# Altium integrated library ON Semi Signal Management Digital POTs.IntLib: 284 symbols (part 11 of 11)
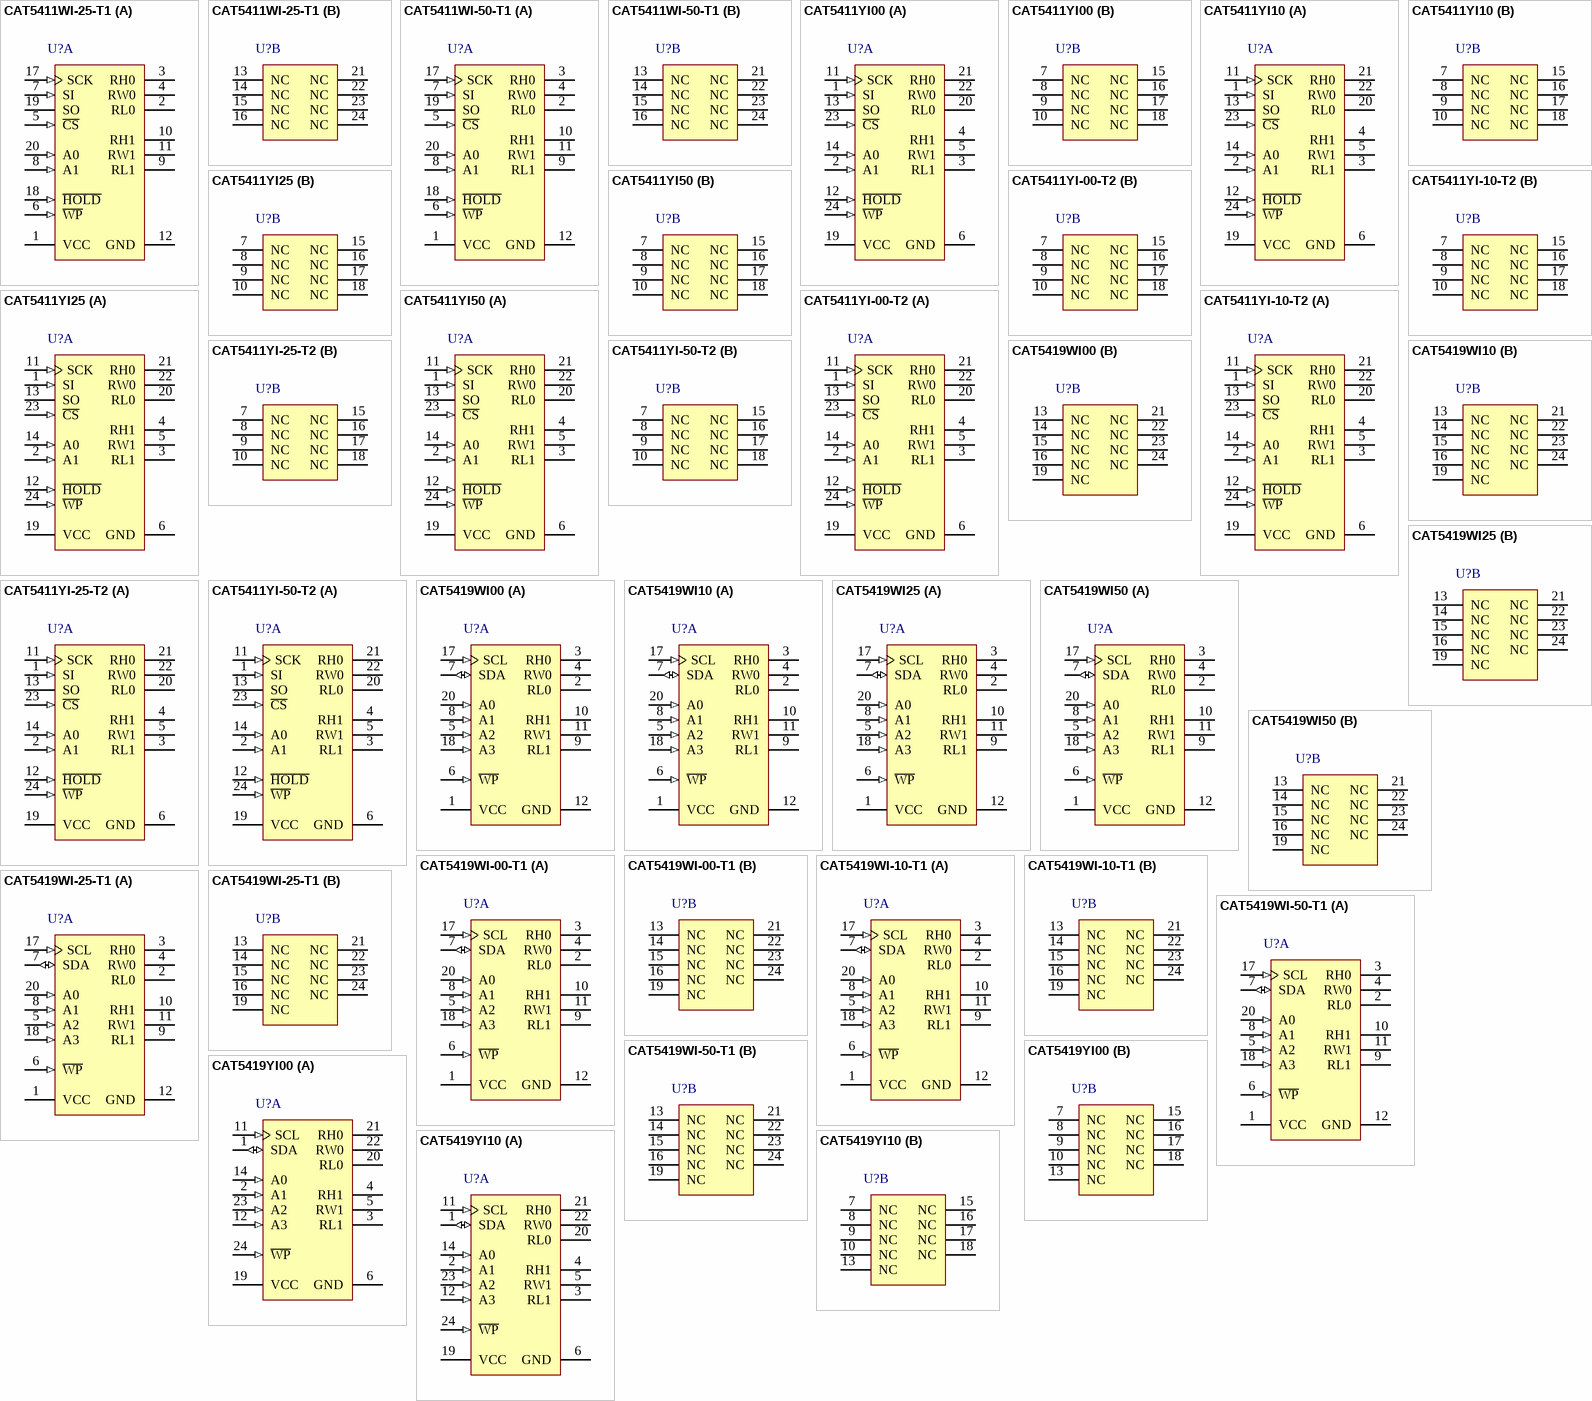
[diagram p19: symbols CAT5411WI-25-T1 to CAT5419YI10]

## CAT5419WI25
designator U?
Dual Digital Potentiometer (POT) with 64 Tap and 2-Wire Interface, -40 to 85 degC, 24-Pin SOIC, Pb-Free, Tube; Manufacturer: On Semiconductor; PartNumber: CAT5419WI25; # of Pots: 2; # of Taps: 64; Control Interface: I2C; VDD Max (V): 6; DatasheetVersion: Rev. 11; PackageVersion: Rev. O, 12/2008; PackageReference: SOIC-24-751BK-01; PackageDescription: 24-Pin Small Outline Integrated Circuit, Body 15.3 x 7.47 mm, Pitch 1.27 mm; Supplier 1: Mouser; Supplier Part Number 1: 698-CAT5419WI-25; Packing: Tube; RoHS: TRUE; Type: Potentiometer; Mounting Technology: Surface Mount; Code_JEDEC: MS-013; ComponentLink1Description: Manufacturer URL; ComponentLink1URL: http://www.onsemi.com/; ComponentLink2Description: Datasheet; ComponentLink2URL: http://www.onsemi.cn/pub_link/Collateral/CAT5419-D.PDF; ComponentLink3Description: Package Specification; ComponentLink3URL: http://www.onsemi.com/pub/Collateral/751BK.PDF
footprint ONSC-SOIC-24-751BK-01_N (SOIC, 24-Leads, Body 15.4x7.6mm, Pitch 1.27mm, IPC Medium Density)
footprint ONSC-SOIC-24-751BK-01_L (SOIC, 24-Leads, Body 15.4x7.6mm, Pitch 1.27mm, IPC High Density)
footprint ONSC-SOIC-24-751BK-01_M (SOIC, 24-Leads, Body 15.4x7.6mm, Pitch 1.27mm, IPC Low Density)
part A pins: 1 VCC (power) "Supply Voltage", 2 RL0 "Low Reference Terminal for Potentiometer 0", 3 RH0 "High Reference Terminal for Potentiometer 0", 4 RW0 "Wiper Terminal for Potentiometer 0", 5 A2 (in) "Device Address", 6 ~{WP} (in) "Write Protection", 7 SDA (io) "Serial Data Input/Output", 8 A1 (in) "Device Address", 9 RL1 "Low Reference Terminal for Potentiometer 1", 10 RH1 "High Reference Terminal for Potentiometer 1", 11 RW1 "Wiper Terminal for Potentiometer 1", 12 GND (power) "Ground", 17 SCL (in) "Bus Serial Clock", 18 A3 (in) "Device Address", 20 A0 (in) "Device Address, LSB"
part B pins: 13 NC "No Connect", 14 NC "No Connect", 15 NC "No Connect", 16 NC "No Connect", 19 NC "No Connect", 21 NC "No Connect", 22 NC "No Connect", 23 NC "No Connect", 24 NC "No Connect"

## CAT5419WI50
designator U?
Dual Digital Potentiometer (POT) with 64 Tap and 2-Wire Interface, -40 to 85 degC, 24-Pin SOIC, Pb-Free, Tube; Manufacturer: On Semiconductor; PartNumber: CAT5419WI50; # of Pots: 2; # of Taps: 64; Control Interface: I2C; VDD Max (V): 6; DatasheetVersion: Rev. 11; PackageVersion: Rev. O, 12/2008; PackageReference: SOIC-24-751BK-01; PackageDescription: 24-Pin Small Outline Integrated Circuit, Body 15.3 x 7.47 mm, Pitch 1.27 mm; Supplier 1: Mouser; Supplier Part Number 1: N/A; Packing: Tube; RoHS: TRUE; Type: Potentiometer; Mounting Technology: Surface Mount; Code_JEDEC: MS-013; ComponentLink1Description: Manufacturer URL; ComponentLink1URL: http://www.onsemi.com/; ComponentLink2Description: Datasheet; ComponentLink2URL: http://www.onsemi.cn/pub_link/Collateral/CAT5419-D.PDF; ComponentLink3Description: Package Specification; ComponentLink3URL: http://www.onsemi.com/pub/Collateral/751BK.PDF
footprint ONSC-SOIC-24-751BK-01_N (SOIC, 24-Leads, Body 15.4x7.6mm, Pitch 1.27mm, IPC Medium Density)
footprint ONSC-SOIC-24-751BK-01_L (SOIC, 24-Leads, Body 15.4x7.6mm, Pitch 1.27mm, IPC High Density)
footprint ONSC-SOIC-24-751BK-01_M (SOIC, 24-Leads, Body 15.4x7.6mm, Pitch 1.27mm, IPC Low Density)
part A pins: 1 VCC (power) "Supply Voltage", 2 RL0 "Low Reference Terminal for Potentiometer 0", 3 RH0 "High Reference Terminal for Potentiometer 0", 4 RW0 "Wiper Terminal for Potentiometer 0", 5 A2 (in) "Device Address", 6 ~{WP} (in) "Write Protection", 7 SDA (io) "Serial Data Input/Output", 8 A1 (in) "Device Address", 9 RL1 "Low Reference Terminal for Potentiometer 1", 10 RH1 "High Reference Terminal for Potentiometer 1", 11 RW1 "Wiper Terminal for Potentiometer 1", 12 GND (power) "Ground", 17 SCL (in) "Bus Serial Clock", 18 A3 (in) "Device Address", 20 A0 (in) "Device Address, LSB"
part B pins: 13 NC "No Connect", 14 NC "No Connect", 15 NC "No Connect", 16 NC "No Connect", 19 NC "No Connect", 21 NC "No Connect", 22 NC "No Connect", 23 NC "No Connect", 24 NC "No Connect"

## CAT5419WI-00-T1
designator U?
Dual Digital Potentiometer (POT) with 64 Tap and 2-Wire Interface, -40 to 85 degC, 24-Pin SOIC, Pb-Free, Tape and Reel; Manufacturer: On Semiconductor; PartNumber: CAT5419WI-00-T1; # of Pots: 2; # of Taps: 64; Control Interface: I2C; VDD Max (V): 6; DatasheetVersion: Rev. 11; PackageVersion: Rev. O, 12/2008; PackageReference: SOIC-24-751BK-01; PackageDescription: 24-Pin Small Outline Integrated Circuit, Body 15.3 x 7.47 mm, Pitch 1.27 mm; Supplier 1: Digi-Key; Supplier Part Number 1: CAT5419WI-00-T1-ND; Supplier 2: Mouser; Supplier Part Number 2: 863-CAT5419WI-00-T1; Packing: Tape and Reel; RoHS: TRUE; Type: Potentiometer; Mounting Technology: Surface Mount; Code_JEDEC: MS-013; ComponentLink1Description: Manufacturer URL; ComponentLink1URL: http://www.onsemi.com/; ComponentLink2Description: Datasheet; ComponentLink2URL: http://www.onsemi.cn/pub_link/Collateral/CAT5419-D.PDF; ComponentLink3Description: Package Specification; ComponentLink3URL: http://www.onsemi.com/pub/Collateral/751BK.PDF
footprint ONSC-SOIC-24-751BK-01_N (SOIC, 24-Leads, Body 15.4x7.6mm, Pitch 1.27mm, IPC Medium Density)
footprint ONSC-SOIC-24-751BK-01_L (SOIC, 24-Leads, Body 15.4x7.6mm, Pitch 1.27mm, IPC High Density)
footprint ONSC-SOIC-24-751BK-01_M (SOIC, 24-Leads, Body 15.4x7.6mm, Pitch 1.27mm, IPC Low Density)
part A pins: 1 VCC (power) "Supply Voltage", 2 RL0 "Low Reference Terminal for Potentiometer 0", 3 RH0 "High Reference Terminal for Potentiometer 0", 4 RW0 "Wiper Terminal for Potentiometer 0", 5 A2 (in) "Device Address", 6 ~{WP} (in) "Write Protection", 7 SDA (io) "Serial Data Input/Output", 8 A1 (in) "Device Address", 9 RL1 "Low Reference Terminal for Potentiometer 1", 10 RH1 "High Reference Terminal for Potentiometer 1", 11 RW1 "Wiper Terminal for Potentiometer 1", 12 GND (power) "Ground", 17 SCL (in) "Bus Serial Clock", 18 A3 (in) "Device Address", 20 A0 (in) "Device Address, LSB"
part B pins: 13 NC "No Connect", 14 NC "No Connect", 15 NC "No Connect", 16 NC "No Connect", 19 NC "No Connect", 21 NC "No Connect", 22 NC "No Connect", 23 NC "No Connect", 24 NC "No Connect"

## CAT5419WI-10-T1
designator U?
Dual Digital Potentiometer (POT) with 64 Tap and 2-Wire Interface, -40 to 85 degC, 24-Pin SOIC, Pb-Free, Tape and Reel; Manufacturer: On Semiconductor; PartNumber: CAT5419WI-10-T1; # of Pots: 2; # of Taps: 64; Control Interface: I2C; VDD Max (V): 6; DatasheetVersion: Rev. 11; PackageVersion: Rev. O, 12/2008; PackageReference: SOIC-24-751BK-01; PackageDescription: 24-Pin Small Outline Integrated Circuit, Body 15.3 x 7.47 mm, Pitch 1.27 mm; Supplier 1: Digi-Key; Supplier Part Number 1: CAT5419WI-10-T1CT-ND; Supplier 2: Digi-Key; Supplier Part Number 2: CAT5419WI-10-T1DKR-ND; Supplier 3: Mouser; Supplier Part Number 3: 863-CAT5419WI-10-T1; Packing: Tape and Reel; RoHS: TRUE; Type: Potentiometer; Mounting Technology: Surface Mount; Code_JEDEC: MS-013; ComponentLink1Description: Manufacturer URL; ComponentLink1URL: http://www.onsemi.com/; ComponentLink2Description: Datasheet; ComponentLink2URL: http://www.onsemi.cn/pub_link/Collateral/CAT5419-D.PDF; ComponentLink3Description: Package Specification; ComponentLink3URL: http://www.onsemi.com/pub/Collateral/751BK.PDF
footprint ONSC-SOIC-24-751BK-01_N (SOIC, 24-Leads, Body 15.4x7.6mm, Pitch 1.27mm, IPC Medium Density)
footprint ONSC-SOIC-24-751BK-01_L (SOIC, 24-Leads, Body 15.4x7.6mm, Pitch 1.27mm, IPC High Density)
footprint ONSC-SOIC-24-751BK-01_M (SOIC, 24-Leads, Body 15.4x7.6mm, Pitch 1.27mm, IPC Low Density)
part A pins: 1 VCC (power) "Supply Voltage", 2 RL0 "Low Reference Terminal for Potentiometer 0", 3 RH0 "High Reference Terminal for Potentiometer 0", 4 RW0 "Wiper Terminal for Potentiometer 0", 5 A2 (in) "Device Address", 6 ~{WP} (in) "Write Protection", 7 SDA (io) "Serial Data Input/Output", 8 A1 (in) "Device Address", 9 RL1 "Low Reference Terminal for Potentiometer 1", 10 RH1 "High Reference Terminal for Potentiometer 1", 11 RW1 "Wiper Terminal for Potentiometer 1", 12 GND (power) "Ground", 17 SCL (in) "Bus Serial Clock", 18 A3 (in) "Device Address", 20 A0 (in) "Device Address, LSB"
part B pins: 13 NC "No Connect", 14 NC "No Connect", 15 NC "No Connect", 16 NC "No Connect", 19 NC "No Connect", 21 NC "No Connect", 22 NC "No Connect", 23 NC "No Connect", 24 NC "No Connect"

## CAT5419WI-25-T1
designator U?
Dual Digital Potentiometer (POT) with 64 Tap and 2-Wire Interface, -40 to 85 degC, 24-Pin SOIC, Pb-Free, Tape and Reel; Manufacturer: On Semiconductor; PartNumber: CAT5419WI-25-T1; # of Pots: 2; # of Taps: 64; Control Interface: I2C; VDD Max (V): 6; DatasheetVersion: Rev. 11; PackageVersion: Rev. O, 12/2008; PackageReference: SOIC-24-751BK-01; PackageDescription: 24-Pin Small Outline Integrated Circuit, Body 15.3 x 7.47 mm, Pitch 1.27 mm; Supplier 1: Digi-Key; Supplier Part Number 1: CAT5419WI-25-T1-ND; Supplier 2: Mouser; Supplier Part Number 2: 698-CAT5419WI-25-T1; Packing: Tape and Reel; RoHS: TRUE; Type: Potentiometer; Mounting Technology: Surface Mount; Code_JEDEC: MS-013; ComponentLink1Description: Manufacturer URL; ComponentLink1URL: http://www.onsemi.com/; ComponentLink2Description: Datasheet; ComponentLink2URL: http://www.onsemi.cn/pub_link/Collateral/CAT5419-D.PDF; ComponentLink3Description: Package Specification; ComponentLink3URL: http://www.onsemi.com/pub/Collateral/751BK.PDF
footprint ONSC-SOIC-24-751BK-01_N (SOIC, 24-Leads, Body 15.4x7.6mm, Pitch 1.27mm, IPC Medium Density)
footprint ONSC-SOIC-24-751BK-01_L (SOIC, 24-Leads, Body 15.4x7.6mm, Pitch 1.27mm, IPC High Density)
footprint ONSC-SOIC-24-751BK-01_M (SOIC, 24-Leads, Body 15.4x7.6mm, Pitch 1.27mm, IPC Low Density)
part A pins: 1 VCC (power) "Supply Voltage", 2 RL0 "Low Reference Terminal for Potentiometer 0", 3 RH0 "High Reference Terminal for Potentiometer 0", 4 RW0 "Wiper Terminal for Potentiometer 0", 5 A2 (in) "Device Address", 6 ~{WP} (in) "Write Protection", 7 SDA (io) "Serial Data Input/Output", 8 A1 (in) "Device Address", 9 RL1 "Low Reference Terminal for Potentiometer 1", 10 RH1 "High Reference Terminal for Potentiometer 1", 11 RW1 "Wiper Terminal for Potentiometer 1", 12 GND (power) "Ground", 17 SCL (in) "Bus Serial Clock", 18 A3 (in) "Device Address", 20 A0 (in) "Device Address, LSB"
part B pins: 13 NC "No Connect", 14 NC "No Connect", 15 NC "No Connect", 16 NC "No Connect", 19 NC "No Connect", 21 NC "No Connect", 22 NC "No Connect", 23 NC "No Connect", 24 NC "No Connect"

## CAT5419WI-50-T1
designator U?
Dual Digital Potentiometer (POT) with 64 Tap and 2-Wire Interface, -40 to 85 degC, 24-Pin SOIC, Pb-Free, Tape and Reel; Manufacturer: On Semiconductor; PartNumber: CAT5419WI-50-T1; # of Pots: 2; # of Taps: 64; Control Interface: I2C; VDD Max (V): 6; DatasheetVersion: Rev. 11; PackageVersion: Rev. O, 12/2008; PackageReference: SOIC-24-751BK-01; PackageDescription: 24-Pin Small Outline Integrated Circuit, Body 15.3 x 7.47 mm, Pitch 1.27 mm; Supplier 1: Digi-Key; Supplier Part Number 1: CAT5419WI-50-T1-ND; Supplier 2: Mouser; Supplier Part Number 2: 863-CAT5419WI-50-T1; Packing: Tape and Reel; RoHS: TRUE; Type: Potentiometer; Mounting Technology: Surface Mount; Code_JEDEC: MS-013; ComponentLink1Description: Manufacturer URL; ComponentLink1URL: http://www.onsemi.com/; ComponentLink2Description: Datasheet; ComponentLink2URL: http://www.onsemi.cn/pub_link/Collateral/CAT5419-D.PDF; ComponentLink3Description: Package Specification; ComponentLink3URL: http://www.onsemi.com/pub/Collateral/751BK.PDF
footprint ONSC-SOIC-24-751BK-01_N (SOIC, 24-Leads, Body 15.4x7.6mm, Pitch 1.27mm, IPC Medium Density)
footprint ONSC-SOIC-24-751BK-01_L (SOIC, 24-Leads, Body 15.4x7.6mm, Pitch 1.27mm, IPC High Density)
footprint ONSC-SOIC-24-751BK-01_M (SOIC, 24-Leads, Body 15.4x7.6mm, Pitch 1.27mm, IPC Low Density)
part A pins: 1 VCC (power) "Supply Voltage", 2 RL0 "Low Reference Terminal for Potentiometer 0", 3 RH0 "High Reference Terminal for Potentiometer 0", 4 RW0 "Wiper Terminal for Potentiometer 0", 5 A2 (in) "Device Address", 6 ~{WP} (in) "Write Protection", 7 SDA (io) "Serial Data Input/Output", 8 A1 (in) "Device Address", 9 RL1 "Low Reference Terminal for Potentiometer 1", 10 RH1 "High Reference Terminal for Potentiometer 1", 11 RW1 "Wiper Terminal for Potentiometer 1", 12 GND (power) "Ground", 17 SCL (in) "Bus Serial Clock", 18 A3 (in) "Device Address", 20 A0 (in) "Device Address, LSB"
part B pins: 13 NC "No Connect", 14 NC "No Connect", 15 NC "No Connect", 16 NC "No Connect", 19 NC "No Connect", 21 NC "No Connect", 22 NC "No Connect", 23 NC "No Connect", 24 NC "No Connect"

## CAT5419YI00
designator U?
Dual Digital Potentiometer (POT) with 64 Tap and 2-Wire Interface, -40 to 85 degC, 24-Pin TSSOP, Pb-Free, Tube; Manufacturer: On Semiconductor; PartNumber: CAT5419YI00; # of Pots: 2; # of Taps: 64; Control Interface: I2C; VDD Max (V): 6; DatasheetVersion: Rev. 11; PackageVersion: Rev. A, 03/2009; PackageReference: TSSOP-24-948AR-01; PackageDescription: 24-Pin Small Outline Package, Body 7.8 x 4.4 mm, Pitch 0.65 mm; Supplier 1: Mouser; Supplier Part Number 1: N/A; Packing: Tube; RoHS: TRUE; Type: Potentiometer; Mounting Technology: Surface Mount; Code_JEDEC: MO-153; ComponentLink1Description: Manufacturer URL; ComponentLink1URL: http://www.onsemi.com/; ComponentLink2Description: Datasheet; ComponentLink2URL: http://www.onsemi.cn/pub_link/Collateral/CAT5419-D.PDF; ComponentLink3Description: Package Specification; ComponentLink3URL: http://www.onsemi.com/pub_link/Collateral/948AR.PDF
footprint ONSC-TSSOP-24-948AR-01_N (SOP, 24-Leads, Body 7.9x4.5mm, Pitch 0.65mm, IPC Medium Density)
footprint ONSC-TSSOP-24-948AR-01_L (SOP, 24-Leads, Body 7.9x4.5mm, Pitch 0.65mm, IPC High Density)
footprint ONSC-TSSOP-24-948AR-01_M (SOP, 24-Leads, Body 7.9x4.5mm, Pitch 0.65mm, IPC Low Density)
part A pins: 1 SDA (io) "Serial Data Input/Output", 2 A1 (in) "Device Address", 3 RL1 "Low Reference Terminal for Potentiometer 1", 4 RH1 "High Reference Terminal for Potentiometer 1", 5 RW1 "Wiper Terminal for Potentiometer 1", 6 GND (power) "Ground", 11 SCL (in) "Bus Serial Clock", 12 A3 (in) "Device Address", 14 A0 (in) "Device Address, LSB", 19 VCC (power) "Supply Voltage", 20 RL0 "Low Reference Terminal for Potentiometer 0", 21 RH0 "High Reference Terminal for Potentiometer 0", 22 RW0 "Wiper Terminal for Potentiometer 0", 23 A2 (in) "Device Address", 24 ~{WP} (in) "Write Protection"
part B pins: 7 NC "No Connect", 8 NC "No Connect", 9 NC "No Connect", 10 NC "No Connect", 13 NC "No Connect", 15 NC "No Connect", 16 NC "No Connect", 17 NC "No Connect", 18 NC "No Connect"

## CAT5419YI10
designator U?
Dual Digital Potentiometer (POT) with 64 Tap and 2-Wire Interface, -40 to 85 degC, 24-Pin TSSOP, Pb-Free, Tube; Manufacturer: On Semiconductor; PartNumber: CAT5419YI10; # of Pots: 2; # of Taps: 64; Control Interface: I2C; VDD Max (V): 6; DatasheetVersion: Rev. 11; PackageVersion: Rev. A, 03/2009; PackageReference: TSSOP-24-948AR-01; PackageDescription: 24-Pin Small Outline Package, Body 7.8 x 4.4 mm, Pitch 0.65 mm; Supplier 1: Mouser; Supplier Part Number 1: 698-CAT5419YI-10; Packing: Tube; RoHS: TRUE; Type: Potentiometer; Mounting Technology: Surface Mount; Code_JEDEC: MO-153; ComponentLink1Description: Manufacturer URL; ComponentLink1URL: http://www.onsemi.com/; ComponentLink2Description: Datasheet; ComponentLink2URL: http://www.onsemi.cn/pub_link/Collateral/CAT5419-D.PDF; ComponentLink3Description: Package Specification; ComponentLink3URL: http://www.onsemi.com/pub_link/Collateral/948AR.PDF
footprint ONSC-TSSOP-24-948AR-01_N (SOP, 24-Leads, Body 7.9x4.5mm, Pitch 0.65mm, IPC Medium Density)
footprint ONSC-TSSOP-24-948AR-01_L (SOP, 24-Leads, Body 7.9x4.5mm, Pitch 0.65mm, IPC High Density)
footprint ONSC-TSSOP-24-948AR-01_M (SOP, 24-Leads, Body 7.9x4.5mm, Pitch 0.65mm, IPC Low Density)
part A pins: 1 SDA (io) "Serial Data Input/Output", 2 A1 (in) "Device Address", 3 RL1 "Low Reference Terminal for Potentiometer 1", 4 RH1 "High Reference Terminal for Potentiometer 1", 5 RW1 "Wiper Terminal for Potentiometer 1", 6 GND (power) "Ground", 11 SCL (in) "Bus Serial Clock", 12 A3 (in) "Device Address", 14 A0 (in) "Device Address, LSB", 19 VCC (power) "Supply Voltage", 20 RL0 "Low Reference Terminal for Potentiometer 0", 21 RH0 "High Reference Terminal for Potentiometer 0", 22 RW0 "Wiper Terminal for Potentiometer 0", 23 A2 (in) "Device Address", 24 ~{WP} (in) "Write Protection"
part B pins: 7 NC "No Connect", 8 NC "No Connect", 9 NC "No Connect", 10 NC "No Connect", 13 NC "No Connect", 15 NC "No Connect", 16 NC "No Connect", 17 NC "No Connect", 18 NC "No Connect"

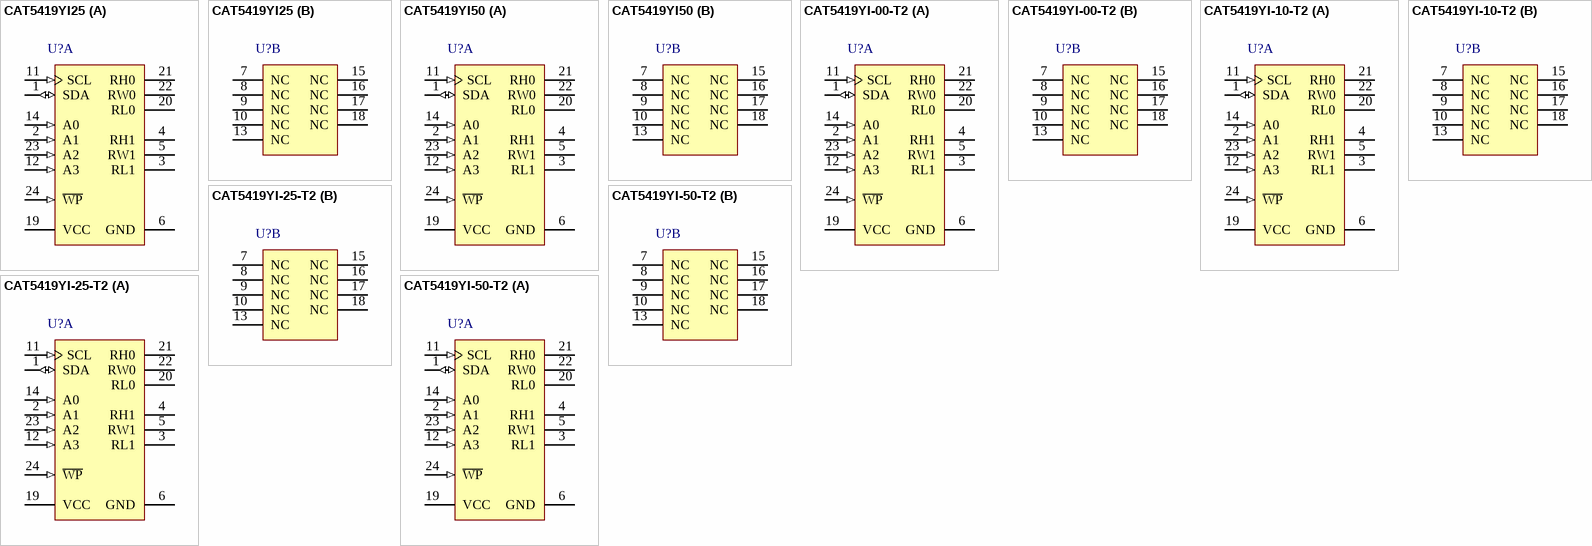
[diagram p9: symbols CAT5419YI25 to CAT5419YI-50-T2]

## CAT5419YI25
designator U?
Dual Digital Potentiometer (POT) with 64 Tap and 2-Wire Interface, -40 to 85 degC, 24-Pin TSSOP, Pb-Free, Tube; Manufacturer: On Semiconductor; PartNumber: CAT5419YI25; # of Pots: 2; # of Taps: 64; Control Interface: I2C; VDD Max (V): 6; DatasheetVersion: Rev. 11; PackageVersion: Rev. A, 03/2009; PackageReference: TSSOP-24-948AR-01; PackageDescription: 24-Pin Small Outline Package, Body 7.8 x 4.4 mm, Pitch 0.65 mm; Supplier 1: Mouser; Supplier Part Number 1: N/A; Packing: Tube; RoHS: TRUE; Type: Potentiometer; Mounting Technology: Surface Mount; Code_JEDEC: MO-153; ComponentLink1Description: Manufacturer URL; ComponentLink1URL: http://www.onsemi.com/; ComponentLink2Description: Datasheet; ComponentLink2URL: http://www.onsemi.cn/pub_link/Collateral/CAT5419-D.PDF; ComponentLink3Description: Package Specification; ComponentLink3URL: http://www.onsemi.com/pub_link/Collateral/948AR.PDF
footprint ONSC-TSSOP-24-948AR-01_N (SOP, 24-Leads, Body 7.9x4.5mm, Pitch 0.65mm, IPC Medium Density)
footprint ONSC-TSSOP-24-948AR-01_L (SOP, 24-Leads, Body 7.9x4.5mm, Pitch 0.65mm, IPC High Density)
footprint ONSC-TSSOP-24-948AR-01_M (SOP, 24-Leads, Body 7.9x4.5mm, Pitch 0.65mm, IPC Low Density)
part A pins: 1 SDA (io) "Serial Data Input/Output", 2 A1 (in) "Device Address", 3 RL1 "Low Reference Terminal for Potentiometer 1", 4 RH1 "High Reference Terminal for Potentiometer 1", 5 RW1 "Wiper Terminal for Potentiometer 1", 6 GND (power) "Ground", 11 SCL (in) "Bus Serial Clock", 12 A3 (in) "Device Address", 14 A0 (in) "Device Address, LSB", 19 VCC (power) "Supply Voltage", 20 RL0 "Low Reference Terminal for Potentiometer 0", 21 RH0 "High Reference Terminal for Potentiometer 0", 22 RW0 "Wiper Terminal for Potentiometer 0", 23 A2 (in) "Device Address", 24 ~{WP} (in) "Write Protection"
part B pins: 7 NC "No Connect", 8 NC "No Connect", 9 NC "No Connect", 10 NC "No Connect", 13 NC "No Connect", 15 NC "No Connect", 16 NC "No Connect", 17 NC "No Connect", 18 NC "No Connect"

## CAT5419YI50
designator U?
Dual Digital Potentiometer (POT) with 64 Tap and 2-Wire Interface, -40 to 85 degC, 24-Pin TSSOP, Pb-Free, Tube; Manufacturer: On Semiconductor; PartNumber: CAT5419YI50; # of Pots: 2; # of Taps: 64; Control Interface: I2C; VDD Max (V): 6; DatasheetVersion: Rev. 11; PackageVersion: Rev. A, 03/2009; PackageReference: TSSOP-24-948AR-01; PackageDescription: 24-Pin Small Outline Package, Body 7.8 x 4.4 mm, Pitch 0.65 mm; Supplier 1: Mouser; Supplier Part Number 1: N/A; Packing: Tube; RoHS: TRUE; Type: Potentiometer; Mounting Technology: Surface Mount; Code_JEDEC: MO-153; ComponentLink1Description: Manufacturer URL; ComponentLink1URL: http://www.onsemi.com/; ComponentLink2Description: Datasheet; ComponentLink2URL: http://www.onsemi.cn/pub_link/Collateral/CAT5419-D.PDF; ComponentLink3Description: Package Specification; ComponentLink3URL: http://www.onsemi.com/pub_link/Collateral/948AR.PDF
footprint ONSC-TSSOP-24-948AR-01_N (SOP, 24-Leads, Body 7.9x4.5mm, Pitch 0.65mm, IPC Medium Density)
footprint ONSC-TSSOP-24-948AR-01_L (SOP, 24-Leads, Body 7.9x4.5mm, Pitch 0.65mm, IPC High Density)
footprint ONSC-TSSOP-24-948AR-01_M (SOP, 24-Leads, Body 7.9x4.5mm, Pitch 0.65mm, IPC Low Density)
part A pins: 1 SDA (io) "Serial Data Input/Output", 2 A1 (in) "Device Address", 3 RL1 "Low Reference Terminal for Potentiometer 1", 4 RH1 "High Reference Terminal for Potentiometer 1", 5 RW1 "Wiper Terminal for Potentiometer 1", 6 GND (power) "Ground", 11 SCL (in) "Bus Serial Clock", 12 A3 (in) "Device Address", 14 A0 (in) "Device Address, LSB", 19 VCC (power) "Supply Voltage", 20 RL0 "Low Reference Terminal for Potentiometer 0", 21 RH0 "High Reference Terminal for Potentiometer 0", 22 RW0 "Wiper Terminal for Potentiometer 0", 23 A2 (in) "Device Address", 24 ~{WP} (in) "Write Protection"
part B pins: 7 NC "No Connect", 8 NC "No Connect", 9 NC "No Connect", 10 NC "No Connect", 13 NC "No Connect", 15 NC "No Connect", 16 NC "No Connect", 17 NC "No Connect", 18 NC "No Connect"

## CAT5419YI-00-T2
designator U?
Dual Digital Potentiometer (POT) with 64 Tap and 2-Wire Interface, -40 to 85 degC, 24-Pin TSSOP, Pb-Free, Tape and Reel; Manufacturer: On Semiconductor; PartNumber: CAT5419YI-00-T2; # of Pots: 2; # of Taps: 64; Control Interface: I2C; VDD Max (V): 6; DatasheetVersion: Rev. 11; PackageVersion: Rev. A, 03/2009; PackageReference: TSSOP-24-948AR-01; PackageDescription: 24-Pin Small Outline Package, Body 7.8 x 4.4 mm, Pitch 0.65 mm; Supplier 1: Digi-Key; Supplier Part Number 1: CAT5419YI-00-T2-ND; Supplier 2: Mouser; Supplier Part Number 2: 863-CAT5419YI-00-T2; Packing: Tape and Reel; RoHS: TRUE; Type: Potentiometer; Mounting Technology: Surface Mount; Code_JEDEC: MO-153; ComponentLink1Description: Manufacturer URL; ComponentLink1URL: http://www.onsemi.com/; ComponentLink2Description: Datasheet; ComponentLink2URL: http://www.onsemi.cn/pub_link/Collateral/CAT5419-D.PDF; ComponentLink3Description: Package Specification; ComponentLink3URL: http://www.onsemi.com/pub_link/Collateral/948AR.PDF
footprint ONSC-TSSOP-24-948AR-01_N (SOP, 24-Leads, Body 7.9x4.5mm, Pitch 0.65mm, IPC Medium Density)
footprint ONSC-TSSOP-24-948AR-01_L (SOP, 24-Leads, Body 7.9x4.5mm, Pitch 0.65mm, IPC High Density)
footprint ONSC-TSSOP-24-948AR-01_M (SOP, 24-Leads, Body 7.9x4.5mm, Pitch 0.65mm, IPC Low Density)
part A pins: 1 SDA (io) "Serial Data Input/Output", 2 A1 (in) "Device Address", 3 RL1 "Low Reference Terminal for Potentiometer 1", 4 RH1 "High Reference Terminal for Potentiometer 1", 5 RW1 "Wiper Terminal for Potentiometer 1", 6 GND (power) "Ground", 11 SCL (in) "Bus Serial Clock", 12 A3 (in) "Device Address", 14 A0 (in) "Device Address, LSB", 19 VCC (power) "Supply Voltage", 20 RL0 "Low Reference Terminal for Potentiometer 0", 21 RH0 "High Reference Terminal for Potentiometer 0", 22 RW0 "Wiper Terminal for Potentiometer 0", 23 A2 (in) "Device Address", 24 ~{WP} (in) "Write Protection"
part B pins: 7 NC "No Connect", 8 NC "No Connect", 9 NC "No Connect", 10 NC "No Connect", 13 NC "No Connect", 15 NC "No Connect", 16 NC "No Connect", 17 NC "No Connect", 18 NC "No Connect"

## CAT5419YI-10-T2
designator U?
Dual Digital Potentiometer (POT) with 64 Tap and 2-Wire Interface, -40 to 85 degC, 24-Pin TSSOP, Pb-Free, Tape and Reel; Manufacturer: On Semiconductor; PartNumber: CAT5419YI-10-T2; # of Pots: 2; # of Taps: 64; Control Interface: I2C; VDD Max (V): 6; DatasheetVersion: Rev. 11; PackageVersion: Rev. A, 03/2009; PackageReference: TSSOP-24-948AR-01; PackageDescription: 24-Pin Small Outline Package, Body 7.8 x 4.4 mm, Pitch 0.65 mm; Supplier 1: Digi-Key; Supplier Part Number 1: CAT5419YI-10-T2-ND; Supplier 2: Farnell; Supplier Part Number 2: 1656109; Supplier 3: Mouser; Supplier Part Number 3: 698-CAT5419YI-10-T2; Packing: Tape and Reel; RoHS: TRUE; Type: Potentiometer; Mounting Technology: Surface Mount; Code_JEDEC: MO-153; ComponentLink1Description: Manufacturer URL; ComponentLink1URL: http://www.onsemi.com/; ComponentLink2Description: Datasheet; ComponentLink2URL: http://www.onsemi.cn/pub_link/Collateral/CAT5419-D.PDF; ComponentLink3Description: Package Specification; ComponentLink3URL: http://www.onsemi.com/pub_link/Collateral/948AR.PDF
footprint ONSC-TSSOP-24-948AR-01_N (SOP, 24-Leads, Body 7.9x4.5mm, Pitch 0.65mm, IPC Medium Density)
footprint ONSC-TSSOP-24-948AR-01_L (SOP, 24-Leads, Body 7.9x4.5mm, Pitch 0.65mm, IPC High Density)
footprint ONSC-TSSOP-24-948AR-01_M (SOP, 24-Leads, Body 7.9x4.5mm, Pitch 0.65mm, IPC Low Density)
part A pins: 1 SDA (io) "Serial Data Input/Output", 2 A1 (in) "Device Address", 3 RL1 "Low Reference Terminal for Potentiometer 1", 4 RH1 "High Reference Terminal for Potentiometer 1", 5 RW1 "Wiper Terminal for Potentiometer 1", 6 GND (power) "Ground", 11 SCL (in) "Bus Serial Clock", 12 A3 (in) "Device Address", 14 A0 (in) "Device Address, LSB", 19 VCC (power) "Supply Voltage", 20 RL0 "Low Reference Terminal for Potentiometer 0", 21 RH0 "High Reference Terminal for Potentiometer 0", 22 RW0 "Wiper Terminal for Potentiometer 0", 23 A2 (in) "Device Address", 24 ~{WP} (in) "Write Protection"
part B pins: 7 NC "No Connect", 8 NC "No Connect", 9 NC "No Connect", 10 NC "No Connect", 13 NC "No Connect", 15 NC "No Connect", 16 NC "No Connect", 17 NC "No Connect", 18 NC "No Connect"

## CAT5419YI-25-T2
designator U?
Dual Digital Potentiometer (POT) with 64 Tap and 2-Wire Interface, -40 to 85 degC, 24-Pin TSSOP, Pb-Free, Tape and Reel; Manufacturer: On Semiconductor; PartNumber: CAT5419YI-25-T2; # of Pots: 2; # of Taps: 64; Control Interface: I2C; VDD Max (V): 6; DatasheetVersion: Rev. 11; PackageVersion: Rev. A, 03/2009; PackageReference: TSSOP-24-948AR-01; PackageDescription: 24-Pin Small Outline Package, Body 7.8 x 4.4 mm, Pitch 0.65 mm; Supplier 1: Digi-Key; Supplier Part Number 1: CAT5419YI-25-T2-ND; Supplier 2: Mouser; Supplier Part Number 2: 863-CAT5419YI-25-T2; Packing: Tape and Reel; RoHS: TRUE; Type: Potentiometer; Mounting Technology: Surface Mount; Code_JEDEC: MO-153; ComponentLink1Description: Manufacturer URL; ComponentLink1URL: http://www.onsemi.com/; ComponentLink2Description: Datasheet; ComponentLink2URL: http://www.onsemi.cn/pub_link/Collateral/CAT5419-D.PDF; ComponentLink3Description: Package Specification; ComponentLink3URL: http://www.onsemi.com/pub_link/Collateral/948AR.PDF
footprint ONSC-TSSOP-24-948AR-01_N (SOP, 24-Leads, Body 7.9x4.5mm, Pitch 0.65mm, IPC Medium Density)
footprint ONSC-TSSOP-24-948AR-01_L (SOP, 24-Leads, Body 7.9x4.5mm, Pitch 0.65mm, IPC High Density)
footprint ONSC-TSSOP-24-948AR-01_M (SOP, 24-Leads, Body 7.9x4.5mm, Pitch 0.65mm, IPC Low Density)
part A pins: 1 SDA (io) "Serial Data Input/Output", 2 A1 (in) "Device Address", 3 RL1 "Low Reference Terminal for Potentiometer 1", 4 RH1 "High Reference Terminal for Potentiometer 1", 5 RW1 "Wiper Terminal for Potentiometer 1", 6 GND (power) "Ground", 11 SCL (in) "Bus Serial Clock", 12 A3 (in) "Device Address", 14 A0 (in) "Device Address, LSB", 19 VCC (power) "Supply Voltage", 20 RL0 "Low Reference Terminal for Potentiometer 0", 21 RH0 "High Reference Terminal for Potentiometer 0", 22 RW0 "Wiper Terminal for Potentiometer 0", 23 A2 (in) "Device Address", 24 ~{WP} (in) "Write Protection"
part B pins: 7 NC "No Connect", 8 NC "No Connect", 9 NC "No Connect", 10 NC "No Connect", 13 NC "No Connect", 15 NC "No Connect", 16 NC "No Connect", 17 NC "No Connect", 18 NC "No Connect"

## CAT5419YI-50-T2
designator U?
Dual Digital Potentiometer (POT) with 64 Tap and 2-Wire Interface, -40 to 85 degC, 24-Pin TSSOP, Pb-Free, Tape and Reel; Manufacturer: On Semiconductor; PartNumber: CAT5419YI-50-T2; # of Pots: 2; # of Taps: 64; Control Interface: I2C; VDD Max (V): 6; DatasheetVersion: Rev. 11; PackageVersion: Rev. A, 03/2009; PackageReference: TSSOP-24-948AR-01; PackageDescription: 24-Pin Small Outline Package, Body 7.8 x 4.4 mm, Pitch 0.65 mm; Supplier 1: Digi-Key; Supplier Part Number 1: CAT5419YI-50-T2-ND; Supplier 2: Mouser; Supplier Part Number 2: 863-CAT5419YI-50-T2; Packing: Tape and Reel; RoHS: TRUE; Type: Potentiometer; Mounting Technology: Surface Mount; Code_JEDEC: MO-153; ComponentLink1Description: Manufacturer URL; ComponentLink1URL: http://www.onsemi.com/; ComponentLink2Description: Datasheet; ComponentLink2URL: http://www.onsemi.cn/pub_link/Collateral/CAT5419-D.PDF; ComponentLink3Description: Package Specification; ComponentLink3URL: http://www.onsemi.com/pub_link/Collateral/948AR.PDF
footprint ONSC-TSSOP-24-948AR-01_N (SOP, 24-Leads, Body 7.9x4.5mm, Pitch 0.65mm, IPC Medium Density)
footprint ONSC-TSSOP-24-948AR-01_L (SOP, 24-Leads, Body 7.9x4.5mm, Pitch 0.65mm, IPC High Density)
footprint ONSC-TSSOP-24-948AR-01_M (SOP, 24-Leads, Body 7.9x4.5mm, Pitch 0.65mm, IPC Low Density)
part A pins: 1 SDA (io) "Serial Data Input/Output", 2 A1 (in) "Device Address", 3 RL1 "Low Reference Terminal for Potentiometer 1", 4 RH1 "High Reference Terminal for Potentiometer 1", 5 RW1 "Wiper Terminal for Potentiometer 1", 6 GND (power) "Ground", 11 SCL (in) "Bus Serial Clock", 12 A3 (in) "Device Address", 14 A0 (in) "Device Address, LSB", 19 VCC (power) "Supply Voltage", 20 RL0 "Low Reference Terminal for Potentiometer 0", 21 RH0 "High Reference Terminal for Potentiometer 0", 22 RW0 "Wiper Terminal for Potentiometer 0", 23 A2 (in) "Device Address", 24 ~{WP} (in) "Write Protection"
part B pins: 7 NC "No Connect", 8 NC "No Connect", 9 NC "No Connect", 10 NC "No Connect", 13 NC "No Connect", 15 NC "No Connect", 16 NC "No Connect", 17 NC "No Connect", 18 NC "No Connect"